# EAGLE library part LMZ21700 (library greg-IC)
LMZ21700 650mA Step-Down Converter The LMZ21700 Nano Module is an easy-to-use step-down DC/DC solution capable of driving up to 650-mA load in space-constrained applications. Only an input capacitor, an output capacitor, a soft-start capacitor, and two resistors are required for basic operation. Integrated Inductor Miniature 3.5 mm × 3.5 mm × 1.75 mm Package 35-mm² Solution Size (Single Sided) –40°C to 125°C Junction Temperature Range Adjustable Output Voltage Integrated Compensation Adjustable Soft-Start Function Starts into Pre-Biased Loads Power Good and Enable Pins Seamless Transition to Power-Save Mode Up to 650 mA Output Current Input Voltage Range 3 V to 17 V Output Voltage Range 0.9 V to 6 V Efficiency up to 95 % 1.5-µA Shutdown Current 17-µA Quiescent Current Datasheet <http://www.ti.com/lit/ds/symlink/lmz21700.pdf>
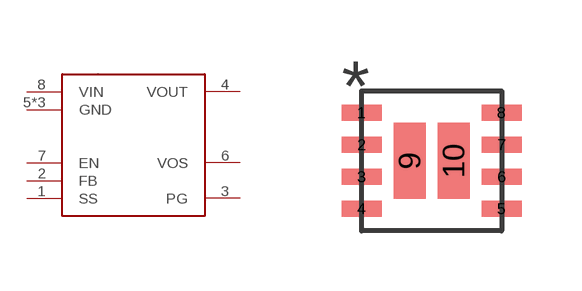
[diagram p12: symbol with the pads of MICROSIP-8; footprint MICROSIP-8]

Designator prefix -

## LMZ21700  [MICROSIP-8]
1  SS  in
2  FB  in
3  PG  out
4  VOUT  pwr
5  GND  pwr
6  VOS
7  EN  in
8  VIN  pwr
9  GND  pwr
10  GND  pwr

## Footprint MICROSIP-8 (pad centres in mm)
smd 1 x 0.4: 1 -1.75,1.2; 2 -1.75,0.4; 3 -1.75,-0.4; 4 -1.75,-1.2; 5 1.75,-1.2; 6 1.75,-0.4; 7 1.75,0.4; 8 1.75,1.2
smd 0.8 x 1.9: 9 -0.55,0; 10 0.55,0